# Altium footprint library PADS_lib3.PcbLib: 22 footprints (part 2 of 2)
Each footprint in its own frame and in the unit in brackets; x right, y up, seen from the top. Pads: shape width x height; smd on the part's side, far side on the other; paste and mask are expansions set on the pad; w line width, h text height; cw(c..) or ccw(c..) is an arc to the next point about the centre after c.
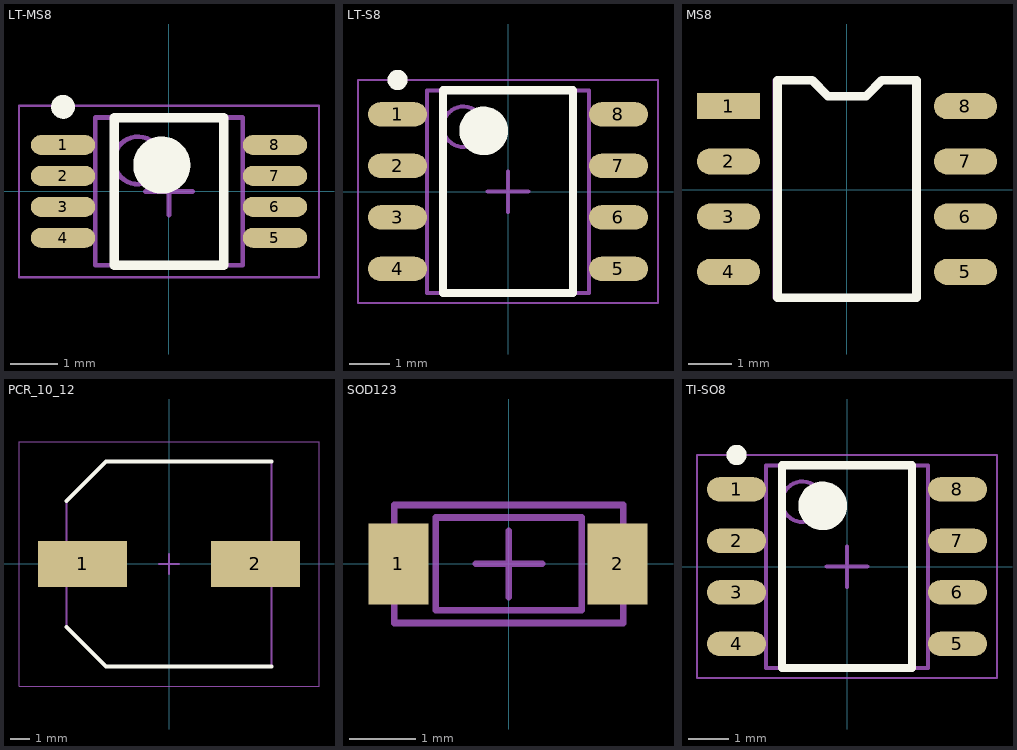
[diagram p1: the footprints below, top view; thin cyan lines are the x and y axes]

## LT-MS8 [mm] "TSOP, 8-Leads, Body 3,00x3,00mm, Pitch 0,65mm, IPC Medium Density"
height 1.1
pads (8):
  oval 1.35x0.42 smd: 1(-2.225,0.975) 2(-2.225,0.325) 3(-2.225,-0.325) 4(-2.225,-0.975) 5(2.225,-0.975) 6(2.225,-0.325) 7(2.225,0.325) 8(2.225,0.975)
Top Overlay:
  circle w0.6: c-0.15,0.55 r0.3
  circle w0.25: c-2.225,1.775 r0.125
  lines w0.2: -1.15,-1.55 1.15,-1.55 1.15,1.55 -1.15,1.55 -1.15,-1.55
Mechanical 13:
  circle w0.1: c-0.65,0.65 r0.5
  lines w0.1: -1.55,-1.55 1.55,-1.55 1.55,1.55 -1.55,1.55 -1.55,-1.55
Mechanical 15:
  lines w0.05: -3.15,-1.8 3.15,-1.8 3.15,1.8 -3.15,1.8 -3.15,-1.8
  lines w0.1: -0.5,0 0.5,0 ; 0,-0.5 0,0.5
3D body: height 1.1, standoff 0.1, extent -1.55,-1.55 1.55,1.55

## LT-S8 [mm] "SOIC, 8-Leads, Body 4,90x3,90mm, Pitch 1,27mm, IPC Medium Density"
height 1.75
pads (8):
  oval 1.45x0.6 smd: 1(-2.725,1.905) 2(-2.725,0.635) 3(-2.725,-0.635) 4(-2.725,-1.905) 5(2.725,-1.905) 6(2.725,-0.635) 7(2.725,0.635) 8(2.725,1.905)
Top Overlay:
  circle w0.25: c-2.725,2.755 r0.125
  circle w0.6: c-0.6,1.5 r0.3
  lines w0.2: -1.6,-2.5 -1.6,2.5 1.6,2.5 1.6,-2.5 -1.6,-2.5
Mechanical 13:
  circle w0.1: c-1.1,1.6 r0.5
  lines w0.1: -2,-2.5 -2,2.5 2,2.5 2,-2.5 -2,-2.5
Mechanical 15:
  lines w0.05: -3.7,-2.75 -3.7,2.75 3.7,2.75 3.7,-2.75 -3.7,-2.75
  lines w0.1: -0.5,0 0.5,0 ; 0,-0.5 0,0.5
3D body "SOIC127P600X175-8N.step": height 1.75, standoff 0, extent -3,-2.5 3,2.5

## MS8 [mm]
pads (8):
  rect 1.45x0.6 smd: 1(-2.718,1.928)
  oval 1.45x0.6 smd: 2(-2.718,0.658) 3(-2.718,-0.612) 4(-2.718,-1.882) 5(2.732,-1.882) 6(2.732,-0.612) 7(2.732,0.658) 8(2.732,1.928)
Top Overlay:
  lines w0.2: -1.593,-2.477 1.607,-2.477 1.607,2.523 0.807,2.523 0.443,2.159 -0.429,2.159 -0.793,2.523 -1.593,2.523 -1.593,-2.477
Mechanical 13:
  lines w0.1: -1.651,-2.477 -1.651,2.523 -0.826,2.523 -0.462,2.159 0.462,2.159 0.826,2.523 1.651,2.523 1.651,1.273 1.651,-1.227 1.651,-2.477 ; -1.644,-2.477 -0.818,-2.477 0.833,-2.477 1.658,-2.477
3D body "SOIC127P600X175-8N.step": height 1.75, standoff 0, extent -2.993,-2.477 3.007,2.523

## PCR_10_12 [mm] "Aluminum Electrolytic Capacitor, Body 10,30x10,30x12,70mm, IPC Low Density"
height 12.7
pads (2):
  rect 4.5x2.35 smd: 1(-4.375,0) 2(4.375,0)
Top Overlay:
  lines w0.2: -5.2,-3.188 -3.187,-5.2 5.2,-5.2 ; -5.2,3.187 -3.187,5.2 5.2,5.2
Mechanical 13:
  lines w0.1: -5.2,-3.188 -5.2,3.187 -3.187,5.2 5.2,5.2 5.2,-5.2 -3.187,-5.2 -5.2,-3.188
Mechanical 15:
  lines w0.05: -7.6,-6.2 7.6,-6.2 7.6,6.2 -7.6,6.2 -7.6,-6.2
  lines w0.1: -0.5,0 0.5,0 ; 0,-0.5 0,0.5
3D body: height 12.7, standoff 0, extent -5,-5.003 5,4.997
3D body: height 4.24, standoff 0, extent -5.2,-5.2 5.2,5.2

## SOD123 [mm] "SOD123 DIODE"
height 1
pads (2):
  rect 0.91x1.22 smd: 1(-1.664,0) 2(1.638,0)
Mechanical 13:
  lines w0.1: -1.1,-0.7 1.1,-0.7 1.1,0.7 -1.1,0.7 -1.1,-0.7
Mechanical 15:
  lines w0.1: -0.5,0 0.5,0 ; 0,-0.5 0,0.5 ; -1.727,-0.889 -1.727,0.889 1.727,0.889 1.727,-0.889 -1.727,-0.889
Mechanical 16:
  lines w0.1: -1.727,-0.892 -1.727,0.889 ; -1.727,-0.892 1.727,-0.892 ; -1.727,-0.892 -1.727,0.889 ; -1.727,-0.892 1.727,-0.892 ; -1.727,0.889 1.727,0.889 ; -1.727,0.889 1.727,0.889 ; 1.727,-0.892 1.727,0.889 ; 1.727,-0.892 1.727,0.889
Mechanical 30:
  text ".Designator" at -1.975,-0.425 h0.8
Mechanical 31:
  text ".Comment" at -2.025,-0.45 h0.8
3D body: height 1, standoff 0, extent -1.05,-0.675 1.05,0.675

## TI-SO8 [mm] "SOIC, 8-Leads, Body 4,90x3,90mm, Pitch 1,27mm, IPC Medium Density"
height 1.75
pads (8):
  oval 1.45x0.6 smd: 1(-2.725,1.905) 2(-2.725,0.635) 3(-2.725,-0.635) 4(-2.725,-1.905) 5(2.725,-1.905) 6(2.725,-0.635) 7(2.725,0.635) 8(2.725,1.905)
Top Overlay:
  circle w0.25: c-2.725,2.755 r0.125
  circle w0.6: c-0.6,1.5 r0.3
  lines w0.2: -1.6,-2.5 -1.6,2.5 1.6,2.5 1.6,-2.5 -1.6,-2.5
Mechanical 13:
  circle w0.1: c-1.1,1.6 r0.5
  lines w0.1: -2,-2.5 -2,2.5 2,2.5 2,-2.5 -2,-2.5
Mechanical 15:
  lines w0.05: -3.7,-2.75 -3.7,2.75 3.7,2.75 3.7,-2.75 -3.7,-2.75
  lines w0.1: -0.5,0 0.5,0 ; 0,-0.5 0,0.5
3D body: height 1.75, standoff 0.1, extent -2,-2.5 2,2.5